# EAGLE library part STM32G431RBT6 (library STM32G431RBT6)
ARM Microcontrollers - MCU Mainstream Arm Cortex-M4+ MCU 170MHz with 128Kbytes of Flash memory, Math Accelerator, Medium Analog level integration Source: Datasheet <https://pl.mouser.com/datasheet/2/389/stm32g431c6-1600866.pdf>
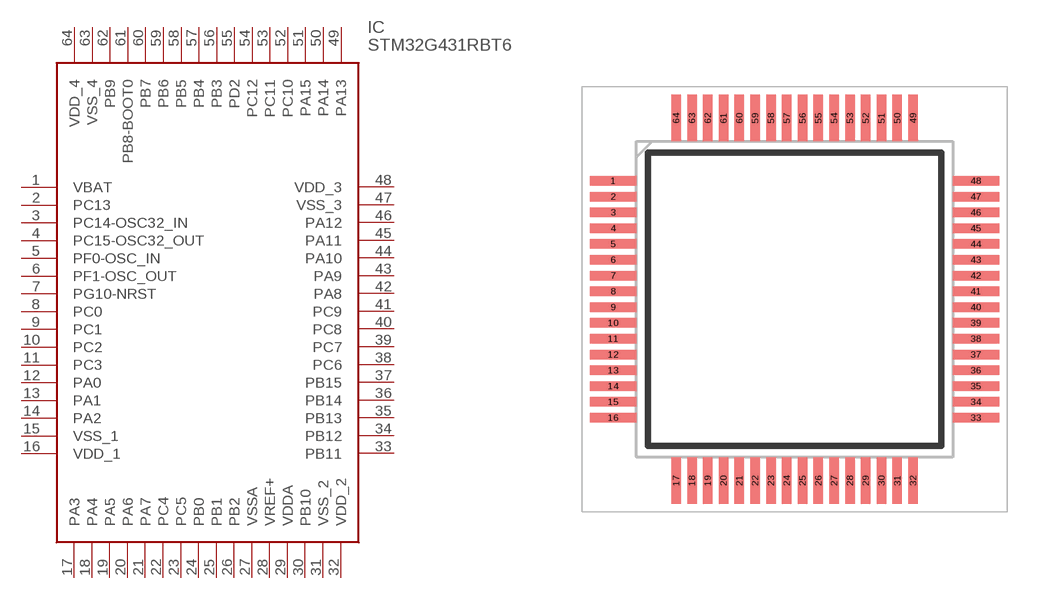
[diagram p0: symbol with the pads of QFP50P1200X1200X160-64N; footprint QFP50P1200X1200X160-64N]

Designator prefix IC

## STM32G431RBT6 (Arrow_Part_Number: STM32G431RBT6; Arrow_Price-Stock: https://www.arrow.com/en/products/stm32g431rbt6/stmicroelectronics?region=nac; Description: ARM Microcontrollers - MCU Mainstream Arm Cortex-M4+ MCU 170MHz with 128Kbytes of Flash memory, Math Accelerator, Medium Analog level integration; Height: 1.6mm; Manufacturer_Name: STMicroelectronics; Manufacturer_Part_Number: STM32G431RBT6; Mouser_Part_Number: 511-STM32G431RBT6; Mouser_Price-Stock: https://www.mouser.co.uk/ProductDetail/STMicroelectronics/STM32G431RBT6?qs=T3oQrply3y8GpSwPjv1GMg%3D%3D)  [QFP50P1200X1200X160-64N]
1  VBAT
2  PC13
3  PC14-OSC32_IN
4  PC15-OSC32_OUT
5  PF0-OSC_IN
6  PF1-OSC_OUT
7  PG10-NRST
8  PC0
9  PC1
10  PC2
11  PC3
12  PA0
13  PA1
14  PA2
15  VSS_1
16  VDD_1
17  PA3
18  PA4
19  PA5
20  PA6
21  PA7
22  PC4
23  PC5
24  PB0
25  PB1
26  PB2
27  VSSA
28  VREF+
29  VDDA
30  PB10
31  VSS_2
32  VDD_2
33  PB11
34  PB12
35  PB13
36  PB14
37  PB15
38  PC6
39  PC7
40  PC8
41  PC9
42  PA8
43  PA9
44  PA10
45  PA11
46  PA12
47  VSS_3
48  VDD_3
49  PA13
50  PA14
51  PA15
52  PC10
53  PC11
54  PC12
55  PD2
56  PB3
57  PB4
58  PB5
59  PB6
60  PB7
61  PB8-BOOT0
62  PB9
63  VSS_4
64  VDD_4

## Footprint QFP50P1200X1200X160-64N (pad centres in mm)
LQFP - 64 pins, 10 x 10 mm
smd 1.475 x 0.3: 1 -5.738,3.75; 2 -5.738,3.25; 3 -5.738,2.75; 4 -5.738,2.25; 5 -5.738,1.75; 6 -5.738,1.25; 7 -5.738,0.75; 8 -5.738,0.25; 9 -5.738,-0.25; 10 -5.738,-0.75; 11 -5.738,-1.25; 12 -5.738,-1.75; 13 -5.738,-2.25; 14 -5.738,-2.75; 15 -5.738,-3.25; 16 -5.738,-3.75; 33 5.738,-3.75; 34 5.738,-3.25; 35 5.738,-2.75; 36 5.738,-2.25; 37 5.738,-1.75; 38 5.738,-1.25; 39 5.738,-0.75; 40 5.738,-0.25; 41 5.738,0.25; 42 5.738,0.75; 43 5.738,1.25; 44 5.738,1.75; 45 5.738,2.25; 46 5.738,2.75; 47 5.738,3.25; 48 5.738,3.75
smd 0.3 x 1.475: 17 -3.75,-5.738; 18 -3.25,-5.738; 19 -2.75,-5.738; 20 -2.25,-5.738; 21 -1.75,-5.738; 22 -1.25,-5.738; 23 -0.75,-5.738; 24 -0.25,-5.738; 25 0.25,-5.738; 26 0.75,-5.738; 27 1.25,-5.738; 28 1.75,-5.738; 29 2.25,-5.738; 30 2.75,-5.738; 31 3.25,-5.738; 32 3.75,-5.738; 49 3.75,5.738; 50 3.25,5.738; 51 2.75,5.738; 52 2.25,5.738; 53 1.75,5.738; 54 1.25,5.738; 55 0.75,5.738; 56 0.25,5.738; 57 -0.25,5.738; 58 -0.75,5.738; 59 -1.25,5.738; 60 -1.75,5.738; 61 -2.25,5.738; 62 -2.75,5.738; 63 -3.25,5.738; 64 -3.75,5.738